# Altium schematic symbol library STM32F413Nucleo_NT35510__SCHlib.SchLib: 10 symbols
Pins are listed as number, name and electrical type; pins without a type are passive.

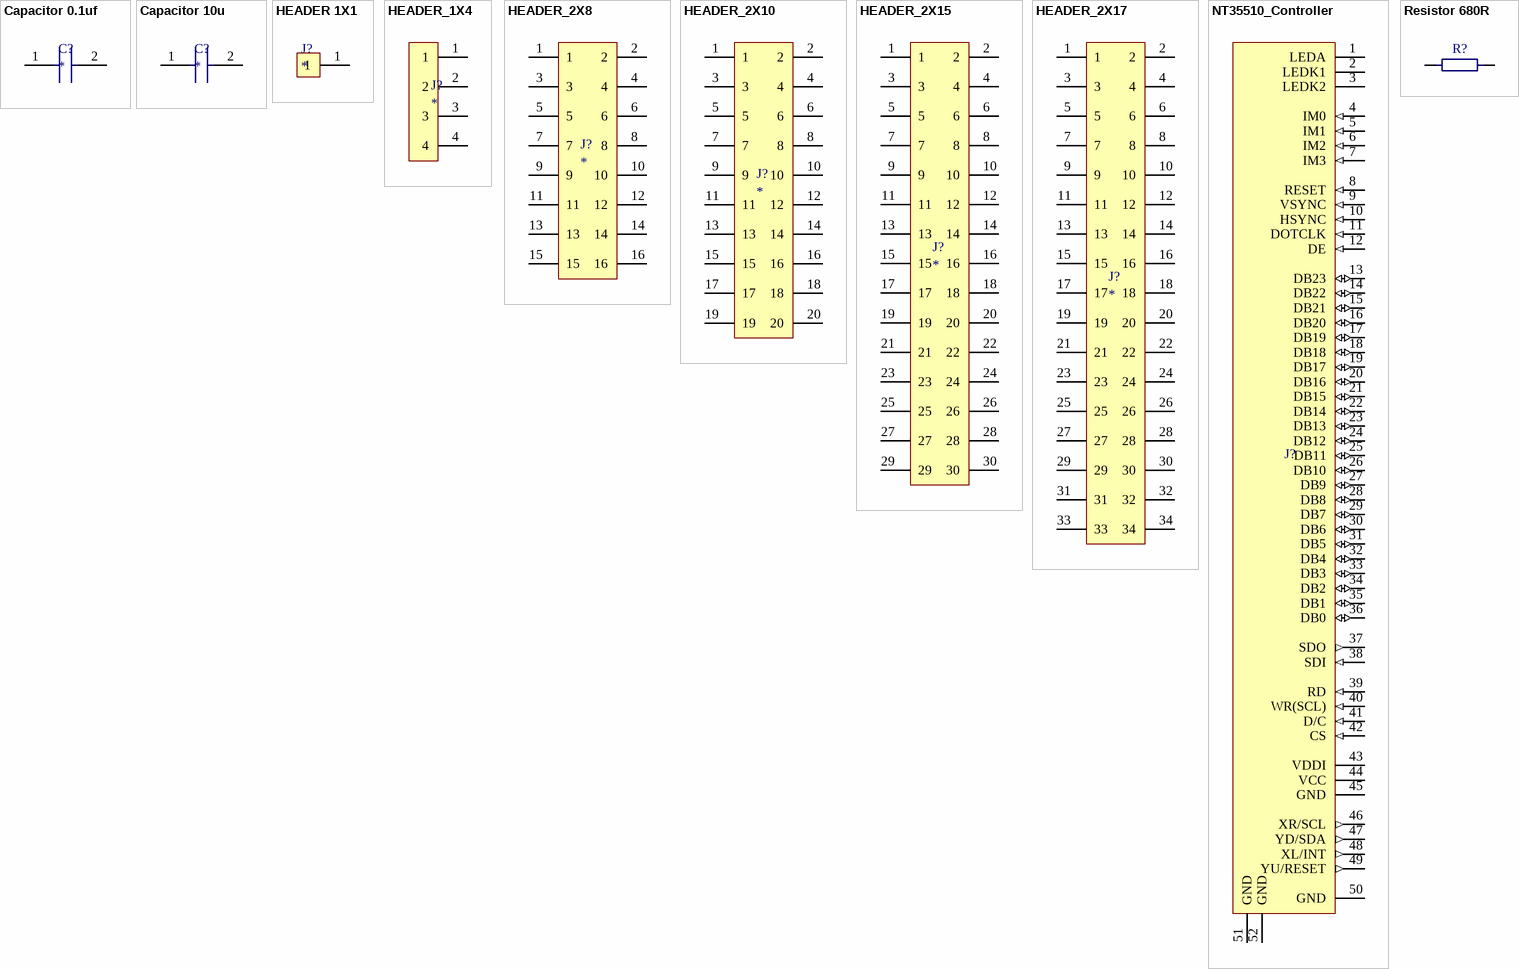
[diagram p0: symbols Capacitor 0.1uf to Resistor 680R]

## Capacitor 0.1uf
designator C?
footprint Capacitor 0805
pins: 1, 2

## Capacitor 10u
designator C?
footprint Capacitor 0805
pins: 1, 2

## HEADER 1X1
designator J?
Header, Single row, 1-Pin
footprint HEADER_1X1 (Male Header, Pitch 2.54mm, 1x1 Position)
pins: 1

## HEADER_1X4
designator J?
Header, Single row, 4-Pin
footprint HEADER_1x4 (Male Header, Pitch 2.54mm, 1x4 P)
pins: 1, 2, 3, 4

## HEADER_2X8
designator J?
Header, Dual row, 8-Pin
footprint HEADER_2x8 (Male Header, Pitch 2.54mm, 2x8 P)
pins: 1, 2, 3, 4, 5, 6, 7, 8, 9, 10, 11, 12, 13, 14, 15, 16

## HEADER_2X10
designator J?
Header, Dual row, 10-Pin
footprint HEADER_2X10 (Male Header, Pitch 2.54mm, 2X10 Position)
pins: 1, 2, 3, 4, 5, 6, 7, 8, 9, 10, 11, 12, 13, 14, 15, 16, 17, 18, 19, 20

## HEADER_2X15
designator J?
Header, Dual row, 15-Pin
footprint HEADER_2x15 (Male Header, Pitch 2.54mm, 2x15 P)
pins: 1, 2, 3, 4, 5, 6, 7, 8, 9, 10, 11, 12, 13, 14, 15, 16, 17, 18, 19, 20, 21, 22, 23, 24, 25, 26, 27, 28, 29, 30

## HEADER_2X17
designator J?
Header, Dual row, 17-Pin
footprint HEADER_2X17 (Male Header, Pitch 2.54mm, 2X17 Position)
pins: 1, 2, 3, 4, 5, 6, 7, 8, 9, 10, 11, 12, 13, 14, 15, 16, 17, 18, 19, 20, 21, 22, 23, 24, 25, 26, 27, 28, 29, 30, 31, 32, 33, 34

## NT35510_Controller
designator J?  (value not drawn)
NT35510 LCD Controller
footprint ER-CON50HT-1 (SMD FPC Connector, Pitch 0.5mm, Top Contact 50 P)
pins: 1 LEDA (power) "Anode for LED backligh", 2 LEDK1 (power) "Cathode for LED backlighti", 3 LEDK2 (power) "Cathode for LED backlighti", 4 IM0 (in) "Select Interface Mode IM0", 5 IM1 (in) "Select Interface Mode IM1", 6 IM2 (in) "Select Interface Mode IM2", 7 IM3 (in) "Select Interface Mode IM3", 8 RESET (in) "Reset the device", 9 VSYNC (in) "Vertical Synchronizing Signal For RGB Interface. Fix to GND level when not in use.", 10 HSYNC (in) "Horizontal Synchronizing Signal For RGB Interface. Fix to GND level when not in use.", 11 DOTCLK (in) "Dot Clock Signal For RGB Interface. Fix to GND level when not in use.", 12 DE (in) "Data Enable Signal For RGB Interface mode 1. Fix to GND level when not in use.", 13 DB23 (io) "24-bit bi-directional data pin for 80-series MPU I/F and 24-bit input data bus for RGB I/F. Fix to GND level when not in use.", 14 DB22 (io) "24-bit bi-directional data pin for 80-series MPU I/F and 24-bit input data bus for RGB I/F. Fix to GND level when not in use.", 15 DB21 (io) "24-bit bi-directional data pin for 80-series MPU I/F and 24-bit input data bus for RGB I/F. Fix to GND level when not in use.", 16 DB20 (io) "24-bit bi-directional data pin for 80-series MPU I/F and 24-bit input data bus for RGB I/F. Fix to GND level when not in use.", 17 DB19 (io) "24-bit bi-directional data pin for 80-series MPU I/F and 24-bit input data bus for RGB I/F. Fix to GND level when not in use.", 18 DB18 (io) "24-bit bi-directional data pin for 80-series MPU I/F and 24-bit input data bus for RGB I/F. Fix to GND level when not in use.", 19 DB17 (io) "24-bit bi-directional data pin for 80-series MPU I/F and 24-bit input data bus for RGB I/F. Fix to GND level when not in use.", 20 DB16 (io) "24-bit bi-directional data pin for 80-series MPU I/F and 24-bit input data bus for RGB I/F. Fix to GND level when not in use.", 21 DB15 (io) "24-bit bi-directional data pin for 80-series MPU I/F and 24-bit input data bus for RGB I/F. Fix to GND level when not in use.", 22 DB14 (io) "24-bit bi-directional data pin for 80-series MPU I/F and 24-bit input data bus for RGB I/F. Fix to GND level when not in use.", 23 DB13 (io) "24-bit bi-directional data pin for 80-series MPU I/F and 24-bit input data bus for RGB I/F. Fix to GND level when not in use.", 24 DB12 (io) "24-bit bi-directional data pin for 80-series MPU I/F and 24-bit input data bus for RGB I/F. Fix to GND level when not in use.", 25 DB11 (io) "24-bit bi-directional data pin for 80-series MPU I/F and 24-bit input data bus for RGB I/F. Fix to GND level when not in use.", 26 DB10 (io) "24-bit bi-directional data pin for 80-series MPU I/F and 24-bit input data bus for RGB I/F. Fix to GND level when not in use.", 27 DB9 (io) "24-bit bi-directional data pin for 80-series MPU I/F and 24-bit input data bus for RGB I/F. Fix to GND level when not in use.", 28 DB8 (io) "24-bit bi-directional data pin for 80-series MPU I/F and 24-bit input data bus for RGB I/F. Fix to GND level when not in use.", 29 DB7 (io) "24-bit bi-directional data pin for 80-series MPU I/F and 24-bit input data bus for RGB I/F. Fix to GND level when not in use.", 30 DB6 (io) "24-bit bi-directional data pin for 80-series MPU I/F and 24-bit input data bus for RGB I/F. Fix to GND level when not in use.", 31 DB5 (io) "24-bit bi-directional data pin for 80-series MPU I/F and 24-bit input data bus for RGB I/F. Fix to GND level when not in use.", 32 DB4 (io) "24-bit bi-directional data pin for 80-series MPU I/F and 24-bit input data bus for RGB I/F. Fix to GND level when not in use.", 33 DB3 (io) "24-bit bi-directional data pin for 80-series MPU I/F and 24-bit input data bus for RGB I/F. Fix to GND level when not in use.", 34 DB2 (io) "24-bit bi-directional data pin for 80-series MPU I/F and 24-bit input data bus for RGB I/F. Fix to GND level when not in use.", 35 DB1 (io) "24-bit bi-directional data pin for 80-series MPU I/F and 24-bit input data bus for RGB I/F. Fix to GND level when not in use.", 36 DB0 (io) "24-bit bi-directional data pin for 80-series MPU I/F and 24-bit input data bus for RGB I/F. Fix to GND level when not in use.", 37 SDO (out) "SPI+RGB Interface：Serial Output Signal. Leave the pin open when not in use.", 38 SDI (in) "SPI+RGB Interface：Serial input Signal. Fix to GND level when not in use.", 39 RD (in) "Reads strobe signal to write data when RD is “Low” in 80-series MPU interface. Fix to VDDI level when not in use.", 40 WR(SCL) (in) "WR: Writes strobe signal to write data when WRX is “Low” in 80-series MPU interface. SCL: A synchronous clock signal in SPI+RGB Interface interface. Fix to VDDI level when not in use.", 41 D/C (in) "Display data / command selection in 80-series MPU I/F. Fix to VDDI level when not in use.", 42 CS (in) "Chip Select Signal", 43 VDDI (power) "Power Supply to the interface pins", 44 VCC (power) "Power Supply to the system.", 45 GND (power) "Ground.", 46 XR/SCL (out) "Resistive touch panel output. Reserved PIN", 47 YD/SDA (out) "Resistive touch panel output. Reserved PIN", 48 XL/INT (out) "Resistive touch panel output. Reserved  PIN", 49 YU/RESET (out) "Resistive touch panel output. Reserved PIN", 50 GND (power) "Ground.", 51 GND (power) "Ground.", 52 GND (power) "Ground."

## Resistor 680R
designator R?  (value not drawn)
Resistor
footprint RES_0805(2012)
pins: 1, 2